# EAGLE library part 74HC4051 (library work)
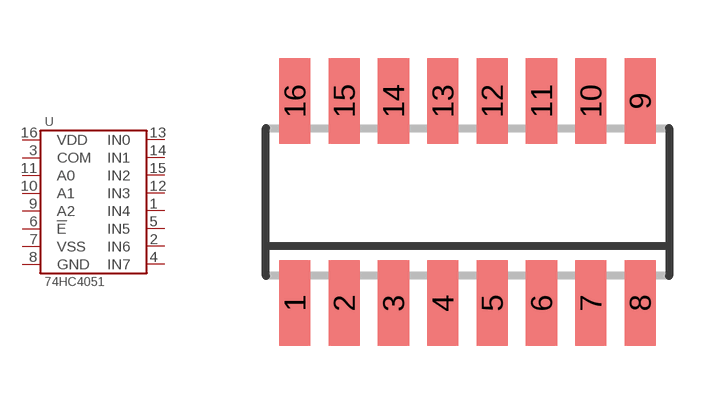
[diagram p66: symbol with the pads of SOIC16; footprint SOIC16]

Designator prefix U

## 74HC4051  [SOIC16]
1  IN4
2  IN6
3  COM
4  IN7
5  IN5
6  !E
7  VSS
8  GND
9  A2
10  A1
11  A0
12  IN3
13  IN0
14  IN1
15  IN2
16  VDD

## Footprint SOIC16 (pad centres in mm)
smd 0.8 x 2.2: 1 -4.445,-2.6; 2 -3.175,-2.6; 3 -1.905,-2.6; 4 -0.635,-2.6; 5 0.635,-2.6; 6 1.905,-2.6; 7 3.175,-2.6; 8 4.445,-2.6; 9 4.445,2.6; 10 3.175,2.6; 11 1.905,2.6; 12 0.635,2.6; 13 -0.635,2.6; 14 -1.905,2.6; 15 -3.175,2.6; 16 -4.445,2.6